# Altium schematic symbol library ShieldKL25zG18.SchLib: 8 symbols
Pins are listed as number, name and electrical type; pins without a type are passive.

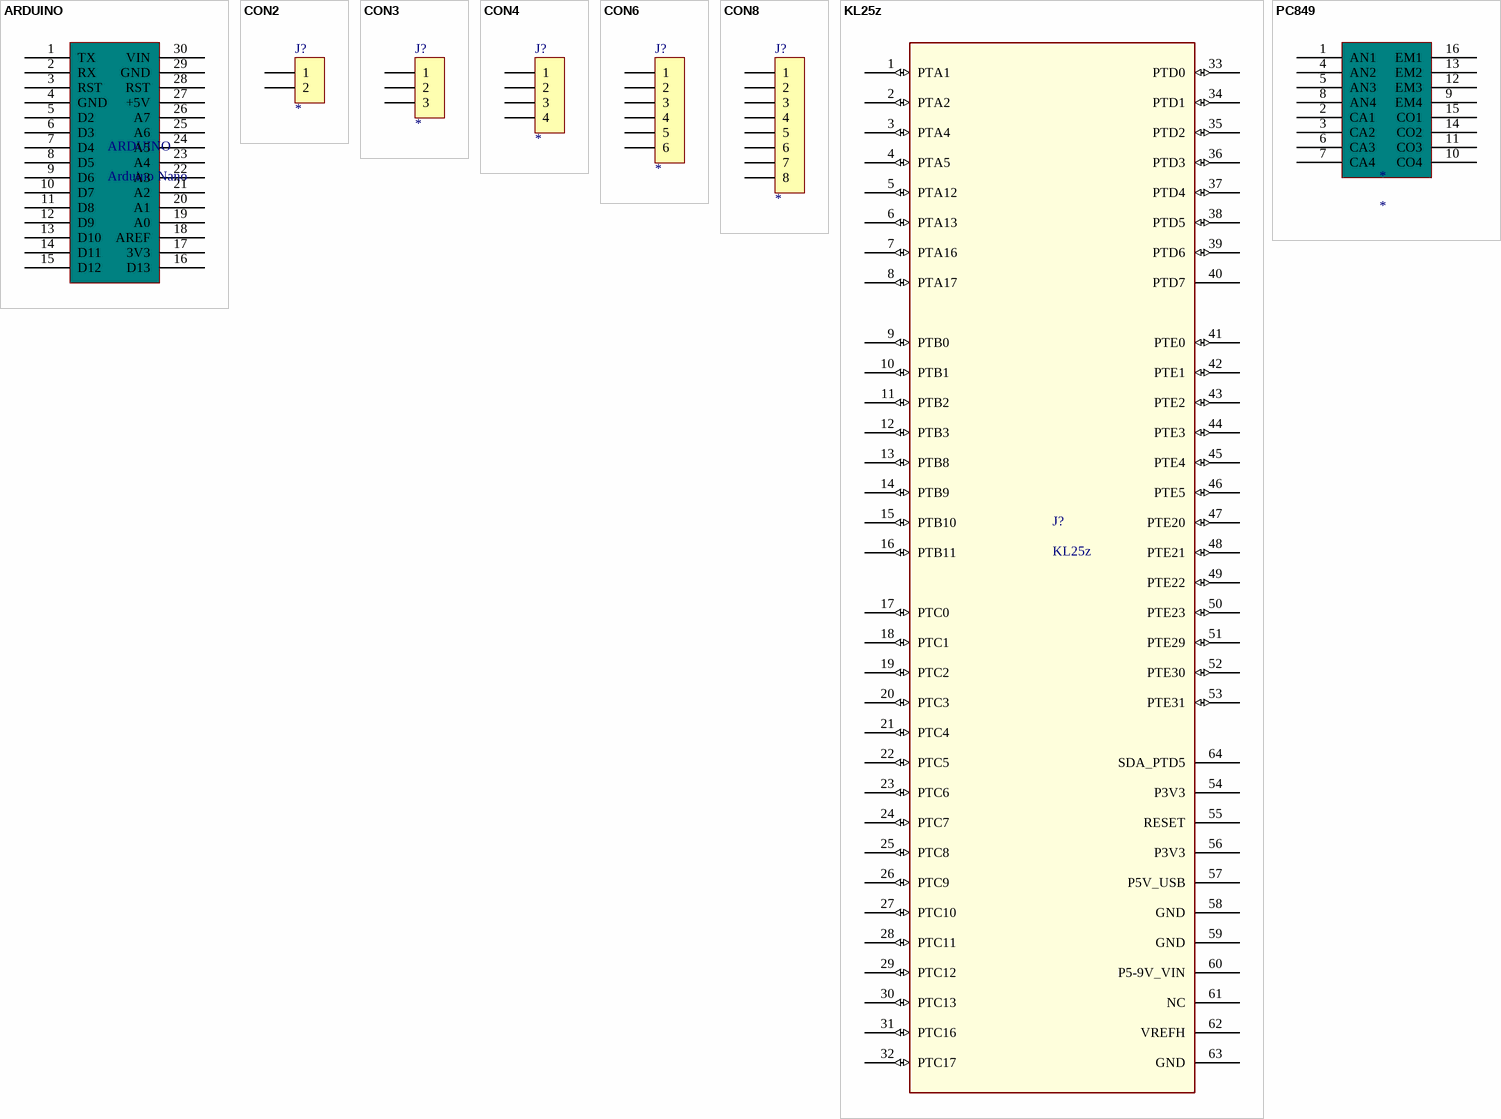
[diagram p0: symbols ARDUINO to PC849]

## ARDUINO
designator ARDUINO, comment Arduino Nano
footprint ARDUINO
pins: 1 TX, 2 RX, 3 RST, 4 GND, 5 D2, 6 D3, 7 D4, 8 D5, 9 D6, 10 D7, 11 D8, 12 D9, 13 D10, 14 D11, 15 D12, 16 D13, 17 3V3, 18 AREF, 19 A0, 20 A1, 21 A2, 22 A3, 23 A4, 24 A5, 25 A6, 26 A7, 27 +5V, 28 RST, 29 GND, 30 VIN

## CON2
designator J?
footprint SIP2
pins: 1, 2

## CON3
designator J?
footprint SIP3
pins: 1, 2, 3

## CON4
designator J?
footprint SIP4
pins: 1, 2, 3, 4

## CON6
designator J?
footprint SIP6
pins: 1, 2, 3, 4, 5, 6

## CON8
designator J?
footprint SIP8
pins: 1, 2, 3, 4, 5, 6, 7, 8

## KL25z
designator J?
Creador: DONADON, Tiago; Fecha: 06/07/2022
footprint Freedom KL25Z Headerarray (Headerarray KL25Z Shield)
pins: 1 PTA1 (io), 2 PTA2 (io), 3 PTA4 (io), 4 PTA5 (io), 5 PTA12 (io), 6 PTA13 (io), 7 PTA16 (io), 8 PTA17 (io), 9 PTB0 (io), 10 PTB1 (io), 11 PTB2 (io), 12 PTB3 (io), 13 PTB8 (io), 14 PTB9 (io), 15 PTB10 (io), 16 PTB11 (io), 17 PTC0 (io), 18 PTC1 (io), 19 PTC2 (io), 20 PTC3 (io), 21 PTC4 (io), 22 PTC5 (io), 23 PTC6 (io), 24 PTC7 (io), 25 PTC8 (io), 26 PTC9 (io), 27 PTC10 (io), 28 PTC11 (io), 29 PTC12 (io), 30 PTC13 (io), 31 PTC16 (io), 32 PTC17 (io), 33 PTD0 (io), 34 PTD1 (io), 35 PTD2 (io), 36 PTD3 (io), 37 PTD4 (io), 38 PTD5 (io), 39 PTD6 (io), 40 PTD7, 41 PTE0 (io), 42 PTE1 (io), 43 PTE2 (io), 44 PTE3 (io), 45 PTE4 (io), 46 PTE5 (io), 47 PTE20 (io), 48 PTE21 (io), 49 PTE22 (io), 50 PTE23 (io), 51 PTE29 (io), 52 PTE30 (io), 53 PTE31 (io), 54 P3V3 (power), 55 RESET, 56 P3V3 (power), 57 P5V_USB, 58 GND (power), 59 GND (power), 60 P5-9V_VIN, 61 NC, 62 VREFH, 63 GND (power), 64 SDA_PTD5

## PC849
designator *
footprint DIP16
pins: 1 AN1, 2 CA1, 3 CA2, 4 AN2, 5 AN3, 6 CA3, 7 CA4, 8 AN4, 9 EM4, 10 CO4, 11 CO3, 12 EM3, 13 EM2, 14 CO2, 15 CO1, 16 EM1